# Altium footprint library Cap_Electrolytic_THT_Pcb.PcbLib: 9 footprints
Each footprint in its own frame and in the unit in brackets; x right, y up, seen from the top. Pads: shape width x height; smd on the part's side, far side on the other; paste and mask are expansions set on the pad; w line width, h text height; cw(c..) or ccw(c..) is an arc to the next point about the centre after c.
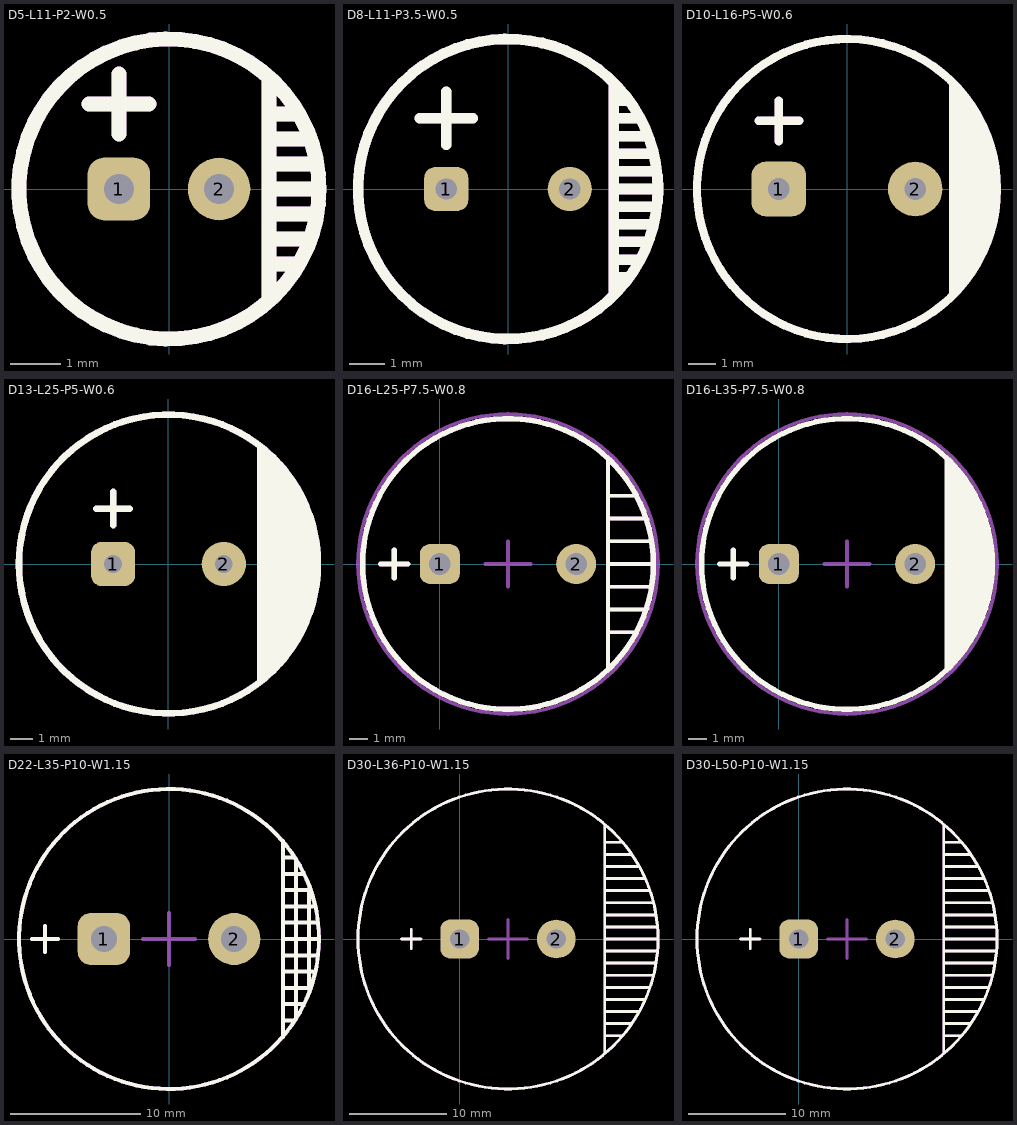
[diagram p0: the footprints below, top view; thin cyan lines are the x and y axes]

## D5-L11-P2-W0.5 [mm] "Radial Electrolytic Cap"
pads (2):
  rrect50% 1.25x1.25 hole 0.6: 1(-1,0)
  round 1.25 hole 0.6: 2(1,0)
Top Overlay:
  circle w0.3: c0,0 r3
  lines w0.3: -1.6,1.7 -0.4,1.7 ; -1,1.1 -1,2.3 ; 2,-2.2 2,2.2 ; 2,-1 2.8,-1 ; 2,-0.5 2.9,-0.5 ; 2,0 3,0 ; 2,0.5 2.9,0.5 ; 2,1 2.8,1 ; 2,1.5 2.6,1.5 ; 2.1,-1.5 2.5,-1.5
Mechanical 13:
  circle w0.3: c0,0 r3
  lines w0.3: -1.6,1.7 -0.4,1.7 ; -1,1.1 -1,2.3 ; 2,-2.2 2,2.2 ; 2,-1 2.8,-1 ; 2,-0.5 2.9,-0.5 ; 2,0 3,0 ; 2,0.5 2.9,0.5 ; 2,1 2.8,1 ; 2,1.5 2.6,1.5 ; 2.1,-1.5 2.5,-1.5
  text ".Voltage" at -4.834,-8.945 h3
  text ".Capacitance" at -1.734,-6.145 h3
  text ".designator" at -2.158,-1.644 h3
Mechanical 15:
  circle w0.3: c0,0 r3
3D body "Cap-EL(5x11-2)T.step": height 11, standoff -2.8, extent -2.5,-2.498 2.502,2.498

## D8-L11-P3.5-W0.5 [mm] "Radial Electrolytic Cap"
pads (2):
  rrect50% 1.25x1.25 hole 0.6: 1(-1.75,0)
  round 1.25 hole 0.6: 2(1.75,0)
Top Overlay:
  circle w0.3: c0,0 r4.25
  lines w0.3: -2.5,2 -1,2 ; -1.75,1.25 -1.75,2.75 ; 3,-3 3,3 ; 3,-2.5 3.4,-2.5 ; 3,-2 3.7,-2 ; 3,-1.5 3.9,-1.5 ; 3,-1 4.1,-1 ; 3,-0.5 4.2,-0.5 ; 3,0 4.25,0 ; 3,0.5 4.2,0.5 ; 3,1 4.1,1 ; 3,1.5 3.9,1.5 ; 3,2 3.7,2 ; 3,2.5 3.4,2.5
Mechanical 13:
  circle w0.3: c0,0 r4.25
  lines w0.3: -2.5,2 -1,2 ; -1.75,1.25 -1.75,2.75 ; 3,-3 3,3 ; 3,-2.5 3.4,-2.5 ; 3,-2 3.7,-2 ; 3,-1.5 3.9,-1.5 ; 3,-1 4.1,-1 ; 3,-0.5 4.2,-0.5 ; 3,0 4.25,0 ; 3,0.5 4.2,0.5 ; 3,1 4.1,1 ; 3,1.5 3.9,1.5 ; 3,2 3.7,2 ; 3,2.5 3.4,2.5
  text ".designator" at -2.858,-1.444 h3
  text "=Voltage" at -3.858,-7.694 h3
  text "=Capacitance" at -2.285,-10.695 h3
Mechanical 15:
  circle w0.3: c0,0 r4.25
3D body "Cap-EL(8x11-3_5).step": height 11, standoff -3.3, extent -4,-3.998 4.002,3.998

## D10-L16-P5-W0.6 [mm] "Radial Capacitor"
pads (2):
  rrect50% 2x2 hole 0.8: 1(-2.5,0)
  round 2 hole 0.8: 2(2.5,0)
Top Overlay:
  circle w0.3: c0,0 r5.5
  region: 3.75,3.85 3.75,-3.95 4.7,-3 4.7,-2.7 5.2,-2.2 5.2,-1.4 5.5,-1.1 5.5,1.2 5.3,1.4 5.3,1.9 4.9,2.3 4.9,2.7
  lines w0.3: -3.25,2.5 -1.75,2.5 ; -2.5,1.75 -2.5,3.25
Mechanical 13:
  circle w0.3: c0,0 r5.5
  region: 3.75,3.85 3.75,-3.95 4.7,-3 4.7,-2.7 5.2,-2.2 5.2,-1.4 5.5,-1.1 5.5,1.2 5.3,1.4 5.3,1.9 4.9,2.3 4.9,2.7
  lines w0.3: -3.25,2.5 -1.75,2.5 ; -2.5,1.75 -2.5,3.25
  text ".Voltage" at -5.274,-11.444 h3
  text ".Capacitance" at -5.334,-8.445 h3
  text ".designator" at -5.334,-1.445 h3
Mechanical 15:
  circle w0.3: c0,0 r5.5
3D body "Cap-EL(10x16-5).step": height 16.02, standoff -3.29, extent -5,-4.997 5.002,4.998

## D13-L25-P5-W0.6 [mm] "Radial Capacitor"
pads (2):
  rrect50% 2x2 hole 0.8: 1(-2.5,0)
  round 2 hole 0.8: 2(2.5,0)
Top Overlay:
  circle w0.3: c0,0 r6.75
  region: 4,5.5 4,-5.5 5.5,-4 5.5,-3.9 6,-3.4 6,-2.9 6.4,-2.5 6.4,-1.7 6.7,-1.4 6.7,-0.5 6.8,-0.4 6.8,1.1 6.5,1.4 6.5,2.2 6.1,2.6 6.1,3.2 5.6,3.7 5.6,3.9
  lines w0.3: -3.25,2.5 -1.75,2.5 ; -2.5,1.75 -2.5,3.25
Mechanical 13:
  circle w0.3: c0,0 r6.75
  region: 4,5.5 4,-5.5 5.5,-4 5.5,-3.9 6,-3.4 6,-2.9 6.4,-2.5 6.4,-1.7 6.7,-1.4 6.7,-0.5 6.8,-0.4 6.8,1.1 6.5,1.4 6.5,2.2 6.1,2.6 6.1,3.2 5.6,3.7 5.6,3.9
  lines w0.3: -3.25,2.5 -1.75,2.5 ; -2.5,1.75 -2.5,3.25
  text ".designator" at -5.334,-1.445 h3
  text ".Capacitance" at -5.334,-8.445 h3
  text ".Voltage" at -5.274,-11.444 h3
Mechanical 15:
  circle w0.3: c0,0 r6.75
3D body "Cap-EL(13x25-5).step": height 25, standoff -3.3, extent -6.5,-6.499 6.502,6.499

## D16-L25-P7.5-W0.8 [mm]
pads (2):
  rrect50% 2.2x2.2 hole 1.2: 1(0,0)
  round 2.2 hole 1.2: 2(7.5,0)
Top Overlay:
  circle w0.3: c3.75,0 r8
  lines w0.2: 9.25,-5.75 9.25,5.75 ; 9.25,-3.75 10.75,-3.75 ; 9.25,-2.5 11.25,-2.5 ; 9.25,-1.25 11.5,-1.25 ; 9.25,0 11.75,0 ; 9.25,1.25 11.5,1.25 ; 9.25,2.5 11.25,2.5 ; 9.25,3.75 10.75,3.75
  lines w0.3: -3.25,0 -1.75,0 ; -2.5,-0.75 -2.5,0.75
Mechanical 13:
  circle w0.3: c3.75,0 r8
  lines w0.2: 9.25,-5.75 9.25,5.75 ; 9.25,-3.75 10.75,-3.75 ; 9.25,-2.5 11.25,-2.5 ; 9.25,-1.25 11.5,-1.25 ; 9.25,0 11.75,0 ; 9.25,1.25 11.5,1.25 ; 9.25,2.5 11.25,2.5 ; 9.25,3.75 10.75,3.75
  lines w0.3: -3.25,0 -1.75,0 ; -2.5,-0.75 -2.5,0.75
  text ".designator" at 0.473,-5.072 h1.5
Mechanical 15:
  circle w0.2: c3.75,0 r8.25
  lines w0.2: 2.5,0 5,0 ; 3.75,-1.25 3.75,1.25
3D body "Cap-EL(16x25-7.5).step": height 26.11, standoff -2.79, extent -4.5,-8.25 12,8.25

## D16-L35-P7.5-W0.8 [mm]
pads (2):
  rrect50% 2.2x2.2 hole 1.2: 1(0,0)
  round 2.2 hole 1.2: 2(7.5,0)
Top Overlay:
  circle w0.3: c3.75,0 r8
  region: 9.25,5.75 9.25,-5.75 10.25,-4.75 10.25,-4.5 10.75,-4 10.75,-3.75 11,-3.5 11,-3.25 11.25,-3 11.25,-2.5 11.5,-2.25 11.5,-1.25 11.75,-1 11.75,1.25 11.5,1.5 11.5,2.5 11.25,2.75 11.25,3 11,3.25 11,3.65
  lines w0.3: -3.25,0 -1.75,0 ; -2.5,-0.75 -2.5,0.75 ; 9.25,-5.75 9.25,5.75 ; 9.25,-3.75 10.75,-3.75 ; 9.25,-2.5 11.25,-2.5 ; 9.25,-1.25 11.5,-1.25 ; 9.25,0 11.75,0 ; 9.25,1.25 11.5,1.25 ; 9.25,2.5 11.25,2.5 ; 9.25,3.75 10.75,3.75
Mechanical 13:
  circle w0.2: c3.75,0 r8
  lines w0.2: -3.25,0 -1.75,0 ; -2.5,-0.75 -2.5,0.75
Mechanical 15:
  circle w0.2: c3.75,0 r8.25
  lines w0.2: 2.5,0 5,0 ; 3.75,-1.25 3.75,1.25
3D body "Cap-EL(16x35-7.5).STEP": height 35.53, standoff -2.99, extent -4.25,-8 11.76,8

## D22-L35-P10-W1.15 [mm]
pads (2):
  rrect50% 4x4 hole 2: 1(-5,0)
  round 4 hole 2: 2(5,0)
Top Overlay:
  circle w0.3: c0,0 r11.5
  lines w0.3: -10.5,0 -8.5,0 ; -9.5,-1 -9.5,1 ; 8.75,-7.5 8.75,7.5 ; 8.75,-6.25 9.5,-6.25 ; 8.75,-5 10.25,-5 ; 8.75,-3.75 10.75,-3.75 10.75,3.75 8.75,3.75 ; 8.75,-2.5 11,-2.5 ; 8.75,-1.25 11.25,-1.25 ; 8.75,0 11.5,0 ; 8.75,1.25 11.25,1.25 ; 8.75,2.5 11,2.5 ; 8.75,5 10.25,5 ; 8.75,6.25 9.5,6.25 ; 9.75,-6 9.75,6
Mechanical 13:
  circle w0.3: c0,0 r11.5
  lines w0.3: -10.5,0 -8.5,0 ; -9.5,-1 -9.5,1
  text ".designator" at -3.776,-9.821 h1.5
Mechanical 15:
  circle w0.3: c0,0 r11.503
  lines w0.3: -2,0 2,0 ; 0,-2 0,2
3D body "Cap-EL(22X35-10).STEP": height 35.8, standoff -0.7, extent -10.993,-10.988 10.996,11

## D30-L36-P10-W1.15 [mm]
pads (2):
  rrect50% 4x4 hole 2: 1(0,0)
  round 4 hole 2: 2(10,0)
Top Overlay:
  circle w0.3: c5,0 r15.5
  lines w0.3: -6,0 -4,0 ; -5,-1 -5,1 ; 15,-11.75 15,11.75 ; 15,-10 16.8,-10 ; 15,-8.75 17.7,-8.75 ; 15,-7.5 18.5,-7.5 ; 15,-6.25 19.1,-6.25 ; 15,-5 19.6,-5 ; 15,-3.75 20,-3.75 ; 15,-2.5 20.3,-2.5 ; 15,-1.25 20.35,-1.25 20.4,-1.3 ; 15,0 20.5,0 ; 15,1.25 20.4,1.25 ; 15,2.5 20.2,2.5 ; 15,3.75 20,3.75 ; 15,5 19.6,5 ; 15,6.25 19.125,6.25 ; 15,7.5 18.5,7.5 ; 15,8.75 17.75,8.75 ; 15,10 16.75,10
Mechanical 13:
  circle w0.3: c5,0 r15.5
  lines w0.3: -6,0 -4,0 ; -5,-1 -5,1 ; 15,-11.75 15,11.75 ; 15,-10 16.8,-10 ; 15,-8.75 17.7,-8.75 ; 15,-7.5 18.5,-7.5 ; 15,-6.25 19.1,-6.25 ; 15,-5 19.6,-5 ; 15,-3.75 20,-3.75 ; 15,-2.5 20.3,-2.5 ; 15,-1.25 20.35,-1.25 20.4,-1.3 ; 15,0 20.5,0 ; 15,1.25 20.4,1.25 ; 15,2.5 20.2,2.5 ; 15,3.75 20,3.75 ; 15,5 19.6,5 ; 15,6.25 19.125,6.25 ; 15,7.5 18.5,7.5 ; 15,8.75 17.75,8.75 ; 15,10 16.75,10
  text ".designator" at 1.224,-9.821 h1.5
Mechanical 15:
  circle w0.3: c5,0 r15.5
  lines w0.3: 3,0 7,0 ; 5,-2 5,2
3D body "Cap-EL(30x36-10).STEP": height 36.84, standoff -6.87, extent -10.252,-15.227 20.228,15.253

## D30-L50-P10-W1.15 [mm]
pads (2):
  rrect50% 4x4 hole 2: 1(0,0)
  round 4 hole 2: 2(10,0)
Top Overlay:
  circle w0.3: c5,0 r15.5
  lines w0.3: -6,0 -4,0 ; -5,-1 -5,1 ; 15,-11.75 15,11.75 ; 15,-10 16.8,-10 ; 15,-8.75 17.7,-8.75 ; 15,-7.5 18.5,-7.5 ; 15,-6.25 19.1,-6.25 ; 15,-5 19.6,-5 ; 15,-3.75 20,-3.75 ; 15,-2.5 20.3,-2.5 ; 15,-1.25 20.35,-1.25 20.4,-1.3 ; 15,0 20.5,0 ; 15,1.25 20.4,1.25 ; 15,2.5 20.2,2.5 ; 15,3.75 20,3.75 ; 15,5 19.6,5 ; 15,6.25 19.125,6.25 ; 15,7.5 18.5,7.5 ; 15,8.75 17.75,8.75 ; 15,10 16.75,10
Mechanical 13:
  circle w0.3: c5,0 r15.5
  lines w0.3: -6,0 -4,0 ; -5,-1 -5,1 ; 15,-11.75 15,11.75 ; 15,-10 16.8,-10 ; 15,-8.75 17.7,-8.75 ; 15,-7.5 18.5,-7.5 ; 15,-6.25 19.1,-6.25 ; 15,-5 19.6,-5 ; 15,-3.75 20,-3.75 ; 15,-2.5 20.3,-2.5 ; 15,-1.25 20.35,-1.25 20.4,-1.3 ; 15,0 20.5,0 ; 15,1.25 20.4,1.25 ; 15,2.5 20.2,2.5 ; 15,3.75 20,3.75 ; 15,5 19.6,5 ; 15,6.25 19.125,6.25 ; 15,7.5 18.5,7.5 ; 15,8.75 17.75,8.75 ; 15,10 16.75,10
  text ".designator" at 1.223,-9.822 h1.5
Mechanical 15:
  circle w0.3: c5,0 r15.5
  lines w0.3: 3,0 7,0 ; 5,-2 5,2
3D body "Cap-EL(30x50-10).STEP": height 50.81, standoff -6.87, extent -10.24,-15.24 20.24,15.24